# EAGLE library part MP2636GR-P (library MP2636GR-P)
Ic Batt Charger Li-Ion Sgl 30qfn Check prices <https://pricing.snapeda.com/parts/MP2636GR-P/Monolithic%20Power/view-part?ref=eda>
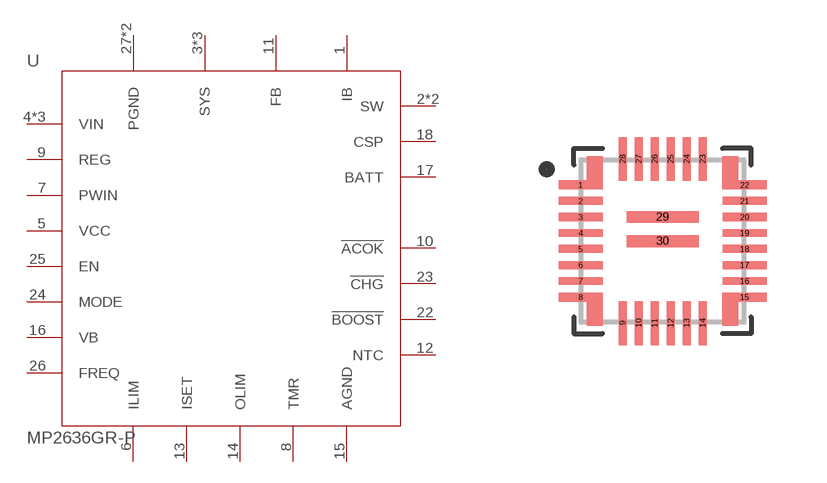
[diagram p0: symbol with the pads of IC_MP2636GR-P; footprint IC_MP2636GR-P]

Designator prefix U

## MP2636GR-P (AVAILABILITY: Warning; DESCRIPTION: Charger IC Lithium Ion/Polymer 30-QFN (4x4); MF: Monolithic Power; MP: MP2636GR-P; PACKAGE: QFN-30 Monolithic Power; PRICE: None; PURCHASE-URL: https://pricing.snapeda.com/search/part/MP2636GR-P/?ref=eda)  [IC_MP2636GR-P]
1  IB  pas
2  SW  out
3  SYS  out
4  VIN  in
5  VCC  pwr
6  ILIM  in
7  PWIN  in
8  TMR  in
9  REG  in
10  !ACOK  out
11  FB  in
12  NTC  pas
13  ISET  in
14  OLIM  pas
15  AGND  pwr
16  VB  pwr
17  BATT  pwr
18  CSP  in
19  VIN  in
20  SYS  out
21  SW  out
22  !BOOST  out
23  !CHG  out
24  MODE  in
25  EN  in
26  FREQ  in
27  PGND  pwr
28  PGND  pwr
29  SYS  out
30  VIN  in

## Footprint IC_MP2636GR-P (pad centres in mm)
smd 1.1 x 0.2: 1 -2.05,1.4; 2 -2.05,1; 3 -2.05,0.6; 4 -2.05,0.2; 5 -2.05,-0.2; 6 -2.05,-0.6; 7 -2.05,-1; 8 -2.05,-1.4; 15 2.05,-1.4; 16 2.05,-1; 17 2.05,-0.6; 18 2.05,-0.2; 19 2.05,0.2; 20 2.05,0.6; 21 2.05,1; 22 2.05,1.4
smd 0.2 x 1.1: 9 -1,-2.05; 10 -0.6,-2.05; 11 -0.2,-2.05; 12 0.2,-2.05; 13 0.6,-2.05; 14 1,-2.05; 23 1,2.05; 24 0.6,2.05; 25 0.2,2.05; 26 -0.2,2.05; 27 -0.6,2.05; 28 -1,2.05
smd 1.8 x 0.3: 29 0,0.6; 30 0,0